# Altium footprint library PCB - POTENTIOMETER - BOURNS TRIMPOT 3362P-1.PCBLIB: 1 footprints
Each footprint in its own frame and in the unit in brackets; x right, y up, seen from the top. Pads: shape width x height; smd on the part's side, far side on the other; paste and mask are expansions set on the pad; w line width, h text height; cw(c..) or ccw(c..) is an arc to the next point about the centre after c.
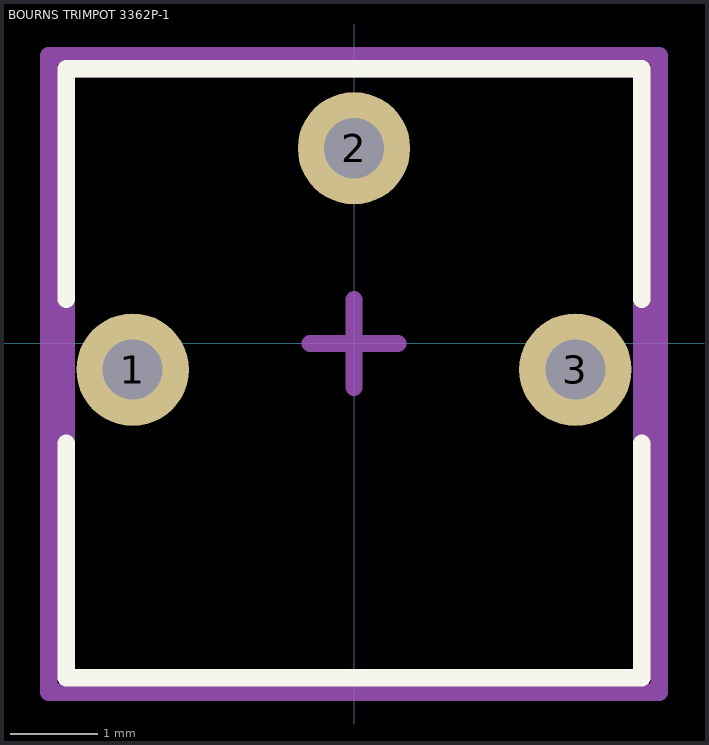
[diagram p0: the footprint, top view; thin cyan lines are the x and y axes]

## BOURNS TRIMPOT 3362P-1 [mm] "3362 -1/4 ? Square Trimpot® Trimming Potentiometer"
height 4.88
pads (3):
  round 1.29 hole 0.69: 1(-2.54,-0.3) 2(0,2.24) 3(2.54,-0.3)
Top Overlay:
  lines w0.2: -3.302,-1.143 -3.302,-3.835 3.302,-3.835 3.302,-1.143 ; -3.302,0.508 -3.302,3.15 3.302,3.15 3.302,0.508
Top Assembly:
  lines w0.2: -3.302,-3.835 -3.302,3.15 3.302,3.15 3.302,-3.835 -3.277,-3.835 ; -0.5,0 0.5,0 ; 0,-0.5 0,0.5
Top Courtyard (Mech15):
  lines w0.2: -3.5,-4 3.5,-4 3.5,3.3 -3.5,3.3 -3.5,-4
3D body "Bourns 3362P-1.step": height 4.7, standoff -2.67, extent -3.302,-3.835 3.302,3.15